# EAGLE library part CONN-52 (library parts)
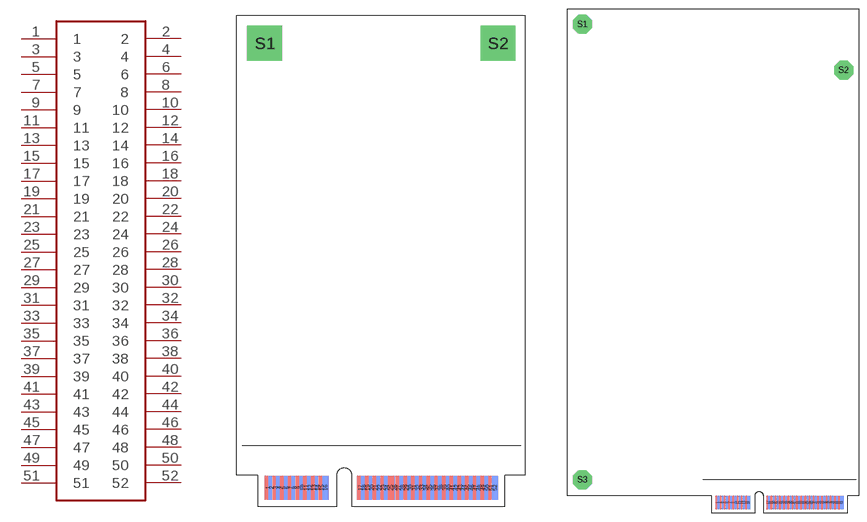
[diagram p19: symbol with the pads of MINI-PCI-E-MODULE; footprints MINI-PCI-E-MODULE, MINI-PCIE-90X55]

Designator prefix U

## CONN-52  [MINI-PCI-E-MODULE]
1  1  pas
2  2  pas
3  3  pas
4  4  pas
5  5  pas
6  6  pas
7  7  pas
8  8  pas
9  9  pas
10  10  pas
11  11  pas
12  12  pas
13  13  pas
14  14  pas
15  15  pas
16  16  pas
17  17  pas
18  18  pas
19  19  pas
20  20  pas
21  21  pas
22  22  pas
23  23  pas
24  24  pas
25  25  pas
26  26  pas
27  27  pas
28  28  pas
29  29  pas
30  30  pas
31  31  pas
32  32  pas
33  33  pas
34  34  pas
35  35  pas
36  36  pas
37  37  pas
38  38  pas
39  39  pas
40  40  pas
41  41  pas
42  42  pas
43  43  pas
44  44  pas
45  45  pas
46  46  pas
47  47  pas
48  48  pas
49  49  pas
50  50  pas
51  51  pas
52  52  pas

## CONN-52-90X55  [MINI-PCIE-90X55]
Pads as for MINI-PCI-E-MODULE

## Footprint MINI-PCI-E-MODULE (pad centres in mm)
smd 0.6 x 2.5: 1 -11.8,-0.2; 3 -11,-0.2; 5 -10.2,-0.2; 7 -9.4,-0.2; 9 -8.6,-0.2; 11 -7.8,-0.2; 13 -7,-0.2; 15 -6.2,-0.2; 17 -2.2,-0.2; 19 -1.4,-0.2; 21 -0.6,-0.2; 23 0.2,-0.2; 25 1,-0.2; 27 1.8,-0.2; 29 2.6,-0.2; 31 3.4,-0.2; 33 4.2,-0.2; 35 5,-0.2; 37 5.8,-0.2; 39 6.6,-0.2; 41 7.4,-0.2; 43 8.2,-0.2; 45 9,-0.2; 47 9.8,-0.2; 49 10.6,-0.2; 51 11.4,-0.2
smd 0.6 x 2.5 bottom: 2 -11.4,-0.2; 4 -10.6,-0.2; 6 -9.8,-0.2; 8 -9,-0.2; 10 -8.2,-0.2; 12 -7.4,-0.2; 14 -6.6,-0.2; 16 -5.8,-0.2; 18 -1.8,-0.2; 20 -1,-0.2; 22 -0.2,-0.2; 24 0.6,-0.2; 26 1.4,-0.2; 28 2.2,-0.2; 30 3,-0.2; 32 3.8,-0.2; 34 4.6,-0.2; 36 5.4,-0.2; 38 6.2,-0.2; 40 7,-0.2; 42 7.8,-0.2; 44 8.6,-0.2; 46 9.4,-0.2; 48 10.2,-0.2; 50 11,-0.2; 52 11.8,-0.2
drill 2.6 square: S1 -12.1,45.95; S2 12.1,45.95

## Footprint MINI-PCIE-90X55 (pad centres in mm)
smd 0.6 x 2.5: 1 -11.8,-4.2; 3 -11,-4.2; 5 -10.2,-4.2; 7 -9.4,-4.2; 9 -8.6,-4.2; 11 -7.8,-4.2; 13 -7,-4.2; 15 -6.2,-4.2; 17 -2.2,-4.2; 19 -1.4,-4.2; 21 -0.6,-4.2; 23 0.2,-4.2; 25 10.6,-4.2; 26 1,-4.2; 28 1.8,-4.2; 30 2.6,-4.2; 32 3.4,-4.2; 34 4.2,-4.2; 36 5,-4.2; 38 5.8,-4.2; 40 6.6,-4.2; 42 7.4,-4.2; 44 8.2,-4.2; 46 9,-4.2; 48 9.8,-4.2; 51 11.4,-4.2
smd 0.6 x 2.5 bottom: 2 -11.4,-4.2; 4 -10.6,-4.2; 6 -9.8,-4.2; 8 -9,-4.2; 10 -8.2,-4.2; 12 -7.4,-4.2; 14 -6.6,-4.2; 16 -5.8,-4.2; 18 -1.8,-4.2; 20 -1,-4.2; 22 -0.2,-4.2; 24 0.6,-4.2; 27 1.4,-4.2; 29 2.2,-4.2; 31 3,-4.2; 33 3.8,-4.2; 35 4.6,-4.2; 37 5.4,-4.2; 39 6.2,-4.2; 41 7,-4.2; 43 7.8,-4.2; 45 8.6,-4.2; 47 9.4,-4.2; 49 10.2,-4.2; 50 11,-4.2; 52 11.8,-4.2
drill 2.6 octagon: S1 -37.2,86.1; S2 12.1,77.45; S3 -37.2,0.1